# EAGLE library part AT86RF (library piccoli)
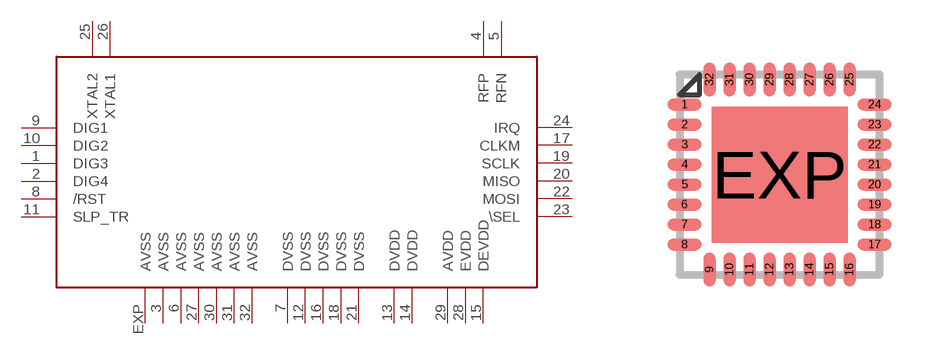
[diagram p15: symbol with the pads of QFNN32; footprint QFNN32]

Designator prefix -

## AT86RF  [QFNN32]
1  DIG3  out
2  DIG4  out
3  AVSS
4  RFP
5  RFN
6  AVSS  pwr
7  DVSS  pwr
8  /RST  in
9  DIG1  out
10  DIG2  out
11  SLP_TR
12  DVSS
13  DVDD  pwr
14  DVDD
15  DEVDD  sup
16  DVSS
17  CLKM  out
18  DVSS
19  SCLK  in
20  MISO  out
21  DVSS
22  MOSI  in
23  \SEL  in
24  IRQ  out
25  XTAL2
26  XTAL1
27  AVSS
28  EVDD  sup
29  AVDD  pwr
30  AVSS
31  AVSS
32  AVSS
EXP  AVSS

## Footprint QFNN32 (pad centres in mm)
RHB (S-PQFP-N32) Source: http://focus.ti.com/lit/ds/symlink/tusb2046b.pdf
smd 0.85 x 0.3: 1 -2.375,1.75; 2 -2.375,1.25; 3 -2.375,0.75; 4 -2.375,0.25; 5 -2.375,-0.25; 6 -2.375,-0.75; 7 -2.375,-1.25; 8 -2.375,-1.75; 17 2.375,-1.75; 18 2.375,-1.25; 19 2.375,-0.75; 20 2.375,-0.25; 21 2.375,0.25; 22 2.375,0.75; 23 2.375,1.25; 24 2.375,1.75
smd 0.3 x 0.85: 9 -1.75,-2.375; 10 -1.25,-2.375; 11 -0.75,-2.375; 12 -0.25,-2.375; 13 0.25,-2.375; 14 0.75,-2.375; 15 1.25,-2.375; 16 1.75,-2.375; 25 1.75,2.375; 26 1.25,2.375; 27 0.75,2.375; 28 0.25,2.375; 29 -0.25,2.375; 30 -0.75,2.375; 31 -1.25,2.375; 32 -1.75,2.375
smd 3.4 x 3.4: EXP 0,0